# Altium schematic symbol library Schlib1.SchLib: 2 symbols
Pins are listed as number, name and electrical type; pins without a type are passive.

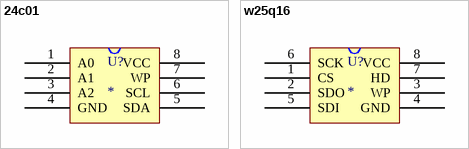
[diagram p0: symbols 24c01 to w25q16]

## 24c01
designator U?
footprint SOIC-8_208mil
pins: 1 A0, 2 A1, 3 A2, 4 GND, 5 SDA, 6 SCL, 7 WP, 8 VCC

## w25q16
designator U?
footprint SOIC-8_208mil
pins: 1 CS, 2 SDO, 3 WP, 4 GND, 5 SDI, 6 SCK, 7 HD, 8 VCC